# Altium footprint library PcbLib1.PcbLib: 28 footprints (part 2 of 2)
Each footprint in its own frame and in the unit in brackets; x right, y up, seen from the top. Pads: shape width x height; smd on the part's side, far side on the other; paste and mask are expansions set on the pad; w line width, h text height; cw(c..) or ccw(c..) is an arc to the next point about the centre after c.
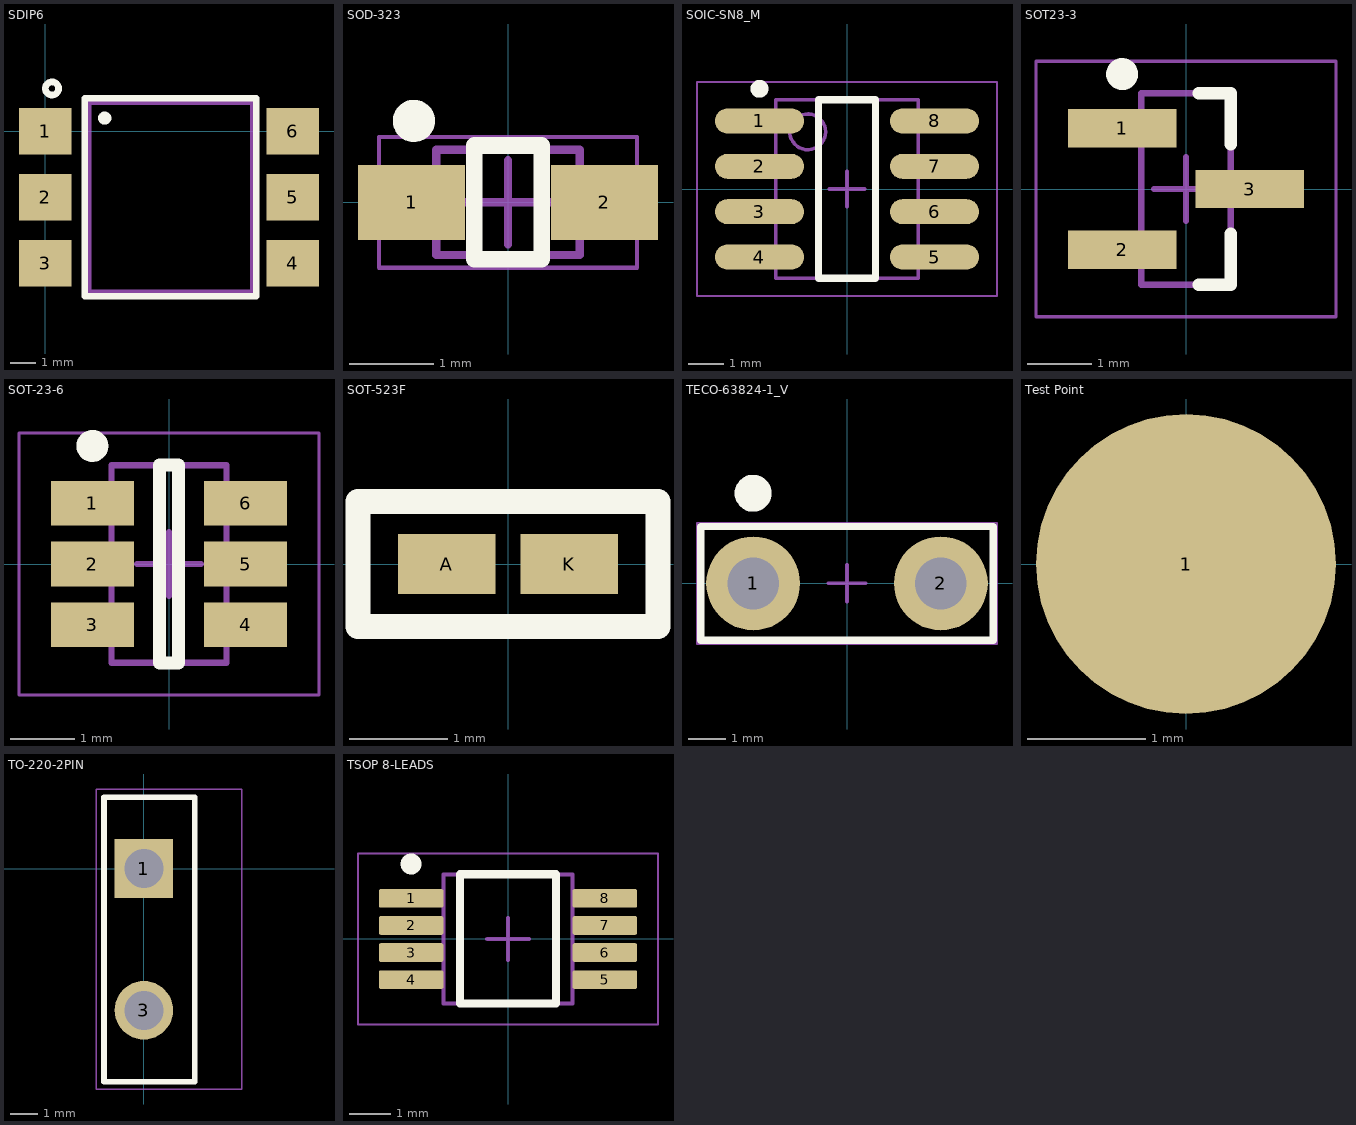
[diagram p1: the footprints below, top view; thin cyan lines are the x and y axes]

## PCBComponent_1 - duplicate [mm]

## PCBComponent_1 - duplicate1 [mm]

## SDIP6 [mil]
pads (6):
  rect 80x70 smd: 1(0,0) 2(0,-100) 3(0,-200) 4(375,-200) 5(375,-100) 6(375,0)
Top Overlay:
  circle w10: c10,65 r10
  circle w10: c90,20 r5
  lines w10: 60,-250 320,-250 320,0 320,50 60,50 60,-250
Mechanical 13:
  lines w10: 65,-245 65,45 315,45 315,-245 65,-245
3D body: height 100, standoff 0, extent 65,-245 315,45
3D body: height 27.56, standoff 0, extent 10,-25 65,25
3D body: height 27.56, standoff 0, extent 10,-125 65,-75
3D body: height 27.56, standoff 0, extent 10,-225 65,-175
3D body: height 27.56, standoff 0, extent 315,-225 370,-175
3D body: height 27.56, standoff 0, extent 315,-125 370,-75
3D body: height 27.56, standoff 0, extent 315,-25 370,25

## SOD-323 [mil] "SOD, 2-Leads, Body 1.7x1.25mm"
height 41.81
pads (2):
  rect 50x35 smd: 1(-45,0) 2(45,0)
Top Overlay:
  circle w9.84: c-43.9,37.99 r4.92
  lines w7.87: -15.75,-26.57 15.75,-26.57 15.75,26.57 -15.75,26.57 -15.75,-26.57
Mechanical 13:
  lines w3.94: -33.46,-24.61 33.46,-24.61 33.46,24.61 -33.46,24.61 -33.46,-24.61
Mechanical 15:
  lines w1.97: -60.24,-30.51 60.24,-30.51 60.24,30.51 -60.24,30.51 -60.24,-30.51
  lines w3.94: -19.68,0 19.68,0 ; 0,-19.68 0,19.68
3D body: height 45, standoff 0, extent -35,-25 35,25

## SOIC-SN8_M [mm] "SOIC, 8-Leads, Body 4.9x3.9mm, Pitch 1.27mm, IPC Low Density"
height 1.75
pads (8):
  oval 2.5x0.7 smd: 1(-2.45,1.905) 2(-2.45,0.635) 3(-2.45,-0.635) 4(-2.45,-1.905) 5(2.45,-1.905) 6(2.45,-0.635) 7(2.45,0.635) 8(2.45,1.905)
Top Overlay:
  circle w0.25: c-2.45,2.805 r0.125
  lines w0.2: -0.8,-2.5 -0.8,2.5 0.8,2.5 0.8,-2.5 -0.8,-2.5
Mechanical 13:
  circle w0.1: c-1.1,1.6 r0.5
  lines w0.1: -2,-2.5 -2,2.5 2,2.5 2,-2.5 -2,-2.5
Mechanical 15:
  lines w0.05: -4.2,-3 -4.2,3 4.2,3 4.2,-3 -4.2,-3
  lines w0.1: -0.5,0 0.5,0 ; 0,-0.5 0,0.5
3D body: height 1.75, standoff 0.1, extent -2,-2.5 2,2.5

## SOT23-3 [mm] "SOT23, 3-Leads, Body 3x1.4mm, Pitch 0.95mm, IPC Low Density"
height 1.1
pads (3):
  rect 1.7x0.6 smd: 1(-1,0.95) 2(-1,-0.95) 3(1,0)
Top Overlay:
  circle w0.25: c-1,1.8 r0.125
  lines w0.2: 0.2,-1.5 0.7,-1.5 0.7,-0.7 ; 0.2,1.5 0.7,1.5 0.7,0.7
Mechanical 13:
  lines w0.1: -0.7,-1.5 0.7,-1.5 0.7,1.5 -0.7,1.5 -0.7,-1.5
Mechanical 15:
  lines w0.05: -2.35,-2 2.35,-2 2.35,2 -2.35,2 -2.35,-2
  lines w0.1: -0.5,0 0.5,0 ; 0,-0.5 0,0.5
3D body "CircuitWorks-SOT-23.step": height 1.06, standoff -0.04, extent -1.25,-1.5 1.25,1.5

## SOT-23-6 [mm] "SOT23, 6-Leads, Body 2.9x1.55mm, Pitch 0.95mm, IPC Low Density"
height 1.45
pads (6):
  rect 1.3x0.7 smd: 1(-1.2,0.95) 2(-1.2,0) 3(-1.2,-0.95) 4(1.2,-0.95) 5(1.2,0) 6(1.2,0.95)
Top Overlay:
  circle w0.25: c-1.2,1.85 r0.125
  lines w0.2: -0.15,-1.55 -0.15,1.55 0.15,1.55 0.15,-1.55 -0.15,-1.55
Mechanical 13:
  lines w0.1: -0.9,-1.55 0.9,-1.55 0.9,1.55 -0.9,1.55 -0.9,-1.55
Mechanical 15:
  lines w0.05: -2.35,-2.05 2.35,-2.05 2.35,2.05 -2.35,2.05 -2.35,-2.05
  lines w0.1: -0.5,0 0.5,0 ; 0,-0.5 0,0.5
3D body "IC_Microchip_MCP16301HT-E-CH_eec.STEP": height 0.25, standoff 0, extent -2.553,-1.95 2.553,1.95

## SOT-523F [mil]
pads (2):
  rect 39x24 smd: A(-24.5,0) K(24.5,0)
Top Overlay:
  lines w10: -60,-25 -60,25 -50,25 50,25 60,25 60,-25 -60,-25
3D body "User Library-SOD523F.SLDPRT": height 27.56, standoff 0, extent -33.47,-17.72 33.46,17.72

## TECO-63824-1_V [mm] "THD, 2-Leads, Body 7.92x3.08mm, Pitch 5.08mm"
height 10.21
pads (2):
  round 2.54 hole 1.4: 1(-2.54,0) 2(2.54,0)
Top Overlay:
  circle w0.5: c-2.54,2.44 r0.25
  lines w0.2: -3.96,-1.54 -3.96,1.54 3.96,1.54 3.96,-1.54 -3.96,-1.54
Mechanical 13:
  lines w0.1: -3.96,-1.54 -3.96,1.54 3.96,1.54 3.96,-1.54 -3.96,-1.54
Mechanical 15:
  lines w0.05: -4.06,-1.64 4.06,-1.64 4.06,1.64 -4.06,1.64 -4.06,-1.64
  lines w0.1: -0.5,0 0.5,0 ; 0,-0.5 0,0.5
3D body "c-63824-1-ad-3d.stp": height 10.21, standoff -3.81, extent -3.96,-1.546 3.965,1.54

## Test Point [mm]
pads (1):
  round 2.54 smd: 1(0,0)

## TO-220-2PIN [mm]
pads (2):
  rect 2.1x2.1 hole 1.4: 1(0,0)
  round 2.1 hole 1.4: 3(0,-5.08)
Top Overlay:
  lines w0.2: -1.43,-7.64 1.83,-7.64 1.83,2.56 -1.43,2.56 -1.43,-7.64
Mechanical 15:
  lines w0.05: -1.7,-7.9 3.5,-7.9 3.5,2.85 -1.35,2.85 -1.4,2.85 -1.7,2.85 -1.7,-7.9

## TSOP 8-LEADS [mm] "TSOP, 8-Leads, Body 3.1x3.1mm, Pitch 0.65mm, IPC Low Density"
height 1.1
pads (8):
  rrect22% 1.55x0.45 smd: 1(-2.325,0.975) 2(-2.325,0.325) 3(-2.325,-0.325) 4(-2.325,-0.975) 5(2.325,-0.975) 6(2.325,-0.325) 7(2.325,0.325) 8(2.325,0.975)
Top Overlay:
  circle w0.25: c-2.325,1.8 r0.125
  lines w0.2: -1.15,-1.55 1.15,-1.55 1.15,1.55 -1.15,1.55 -1.15,-1.55
Mechanical 1:
  text ".Designator" at -1.397,-0.254 h0.7
Mechanical 13:
  lines w0.1: -1.55,-1.55 1.55,-1.55 1.55,1.55 -1.55,1.55 -1.55,-1.55
Mechanical 15:
  lines w0.05: -3.6,-2.05 3.6,-2.05 3.6,2.05 -3.6,2.05 -3.6,-2.05
  lines w0.1: -0.5,0 0.5,0 ; 0,-0.5 0,0.5
3D body "MUY08A_ASM.stp": height 0.94, standoff -0.02, extent -2.451,-1.499 2.451,1.499